# Altium integrated library ON Semi Signal Management Operational Amplifiers.IntLib: 435 symbols (part 5 of 12)
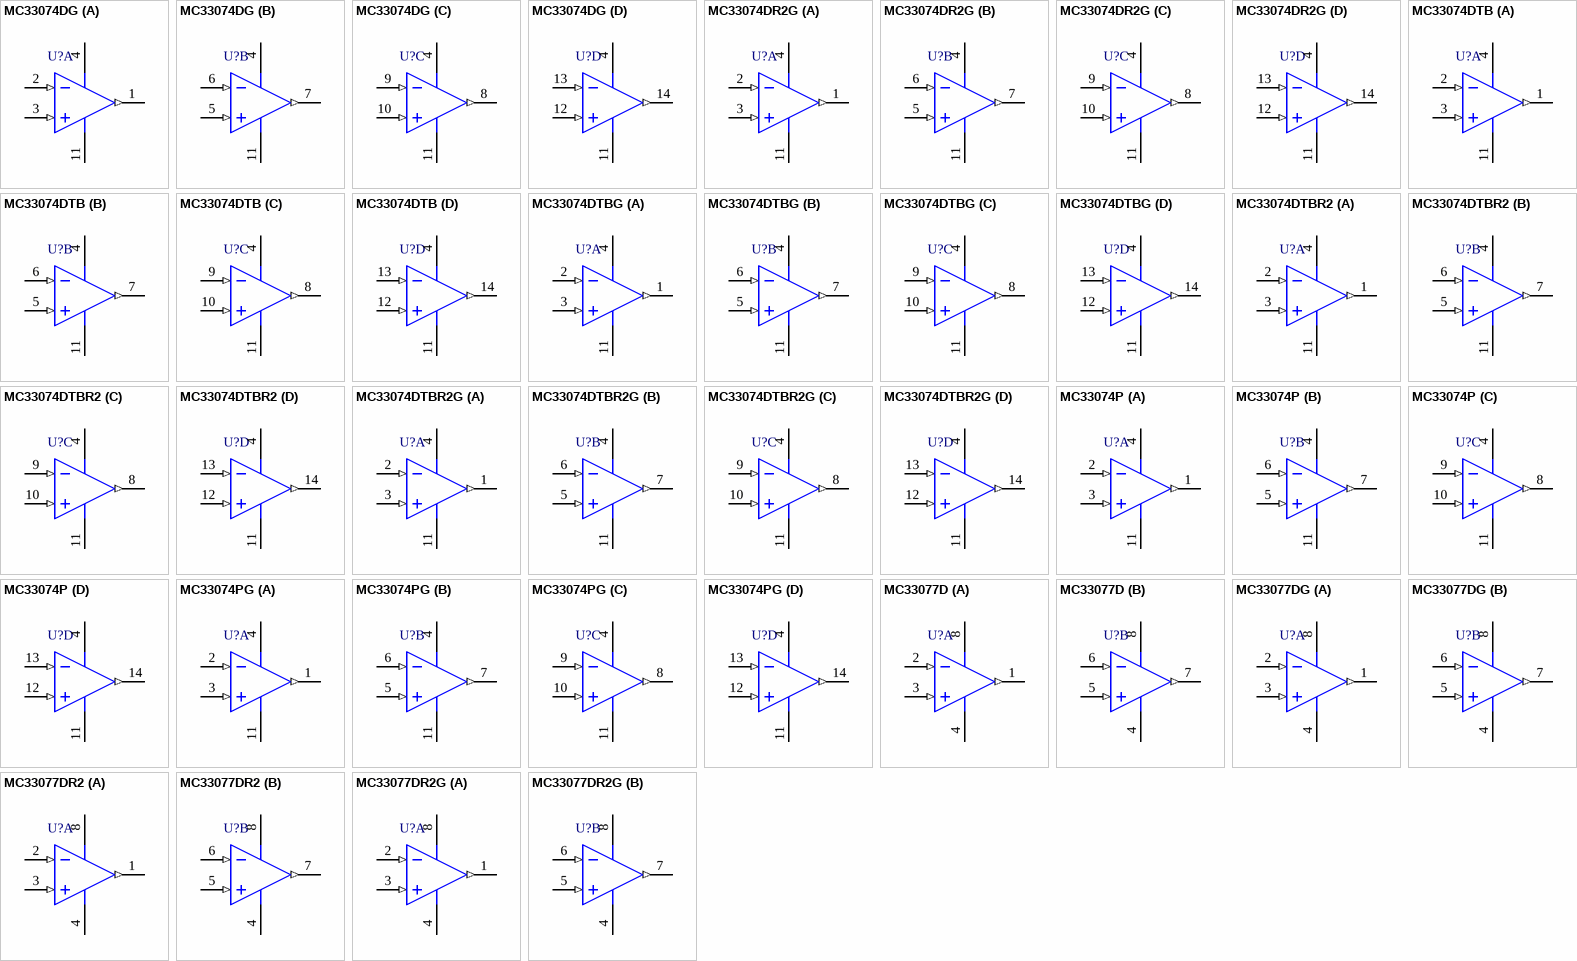
[diagram p29: symbols MC33074DG to MC33077DR2G]

## MC33077DG
designator U?
Low Noise Dual Operational Amplifier, 5 to 36 V, -40 to 85 degC, 8-Pin SOIC, Pb-Free, Tube; Manufacturer: On Semiconductor; PartNumber: MC33077DG; GBW Typ (MHz): 37; SR Typ (V/uS): 11; VCC Max (V): 36; VCC Min (V): 5; DatasheetVersion: Rev. 5; PackageVersion: Rev. AK, 02/2011; PackageReference: SOIC-8-751-07; PackageDescription: 8-Pin Small Outline Integrated Circuit, Body 4.9 x 3.9 mm, Pitch 1.27 mm; Supplier 1: Digi-Key; Supplier Part Number 1: MC33077DGOS-ND; Supplier 2: Farnell; Supplier Part Number 2: 1211116; Supplier 3: Newark; Supplier Part Number 3: 98H0675; Supplier 4: Mouser; Supplier Part Number 4: 863-MC33077DG; Packing: Tube; RoHS: TRUE; Mounting Technology: Surface Mount; ComponentLink1Description: Manufacturer URL; ComponentLink1URL: http://www.onsemi.com/; ComponentLink2Description: Datasheet; ComponentLink2URL: http://www.onsemi.cn/pub_link/Collateral/MC33077-D.PDF; ComponentLink3Description: Package Specification; ComponentLink3URL: http://www.onsemi.com/pub_link/Collateral/751-07.PDF
footprint ONSC-SOIC-8-751-07_V (SOIC, 8-Leads, Body 4.9x3.9mm, Pitch 1.27mm)
pins on every part: 4 VEE (power), 8 VCC (power)
part A pins: 1 OUT1 (out), 2 IN1- (in), 3 IN1+ (in)
part B pins: 5 IN2+ (in), 6 IN2- (in), 7 OUT2 (out)

## MC33077DR2
designator U?
Low Noise Dual Operational Amplifier, 5 to 36 V, -40 to 85 degC, 8-Pin SOIC, Tape and Reel; Manufacturer: On Semiconductor; PartNumber: MC33077DR2; GBW Typ (MHz): 37; SR Typ (V/uS): 11; VCC Max (V): 36; VCC Min (V): 5; DatasheetVersion: Rev. 5; PackageVersion: Rev. AK, 02/2011; PackageReference: SOIC-8-751-07; PackageDescription: 8-Pin Small Outline Integrated Circuit, Body 4.9 x 3.9 mm, Pitch 1.27 mm; Packing: Tape and Reel; RoHS: FALSE; Mounting Technology: Surface Mount; ComponentLink1Description: Manufacturer URL; ComponentLink1URL: http://www.onsemi.com/; ComponentLink2Description: Datasheet; ComponentLink2URL: http://www.onsemi.cn/pub_link/Collateral/MC33077-D.PDF; ComponentLink3Description: Package Specification; ComponentLink3URL: http://www.onsemi.com/pub_link/Collateral/751-07.PDF
footprint ONSC-SOIC-8-751-07_V (SOIC, 8-Leads, Body 4.9x3.9mm, Pitch 1.27mm)
pins on every part: 4 VEE (power), 8 VCC (power)
part A pins: 1 OUT1 (out), 2 IN1- (in), 3 IN1+ (in)
part B pins: 5 IN2+ (in), 6 IN2- (in), 7 OUT2 (out)

## MC33077DR2G
designator U?
Low Noise Dual Operational Amplifier, 5 to 36 V, -40 to 85 degC, 8-Pin SOIC, Pb-Free, Tape and Reel; Manufacturer: On Semiconductor; PartNumber: MC33077DR2G; GBW Typ (MHz): 37; SR Typ (V/uS): 11; VCC Max (V): 36; VCC Min (V): 5; DatasheetVersion: Rev. 5; PackageVersion: Rev. AK, 02/2011; PackageReference: SOIC-8-751-07; PackageDescription: 8-Pin Small Outline Integrated Circuit, Body 4.9 x 3.9 mm, Pitch 1.27 mm; Supplier 1: Digi-Key; Supplier Part Number 1: MC33077DR2GOSTR-ND; Supplier 2: Digi-Key; Supplier Part Number 2: MC33077DR2GOSCT-ND; Supplier 3: Digi-Key; Supplier Part Number 3: MC33077DR2GOSDKR-ND; Supplier 4: Newark; Supplier Part Number 4: 98H0676; Supplier 5: Mouser; Supplier Part Number 5: 863-MC33077DR2G; Packing: Tape and Reel; RoHS: TRUE; Mounting Technology: Surface Mount; ComponentLink1Description: Manufacturer URL; ComponentLink1URL: http://www.onsemi.com/; ComponentLink2Description: Datasheet; ComponentLink2URL: http://www.onsemi.cn/pub_link/Collateral/MC33077-D.PDF; ComponentLink3Description: Package Specification; ComponentLink3URL: http://www.onsemi.com/pub_link/Collateral/751-07.PDF
footprint ONSC-SOIC-8-751-07_V (SOIC, 8-Leads, Body 4.9x3.9mm, Pitch 1.27mm)
pins on every part: 4 VEE (power), 8 VCC (power)
part A pins: 1 OUT1 (out), 2 IN1- (in), 3 IN1+ (in)
part B pins: 5 IN2+ (in), 6 IN2- (in), 7 OUT2 (out)

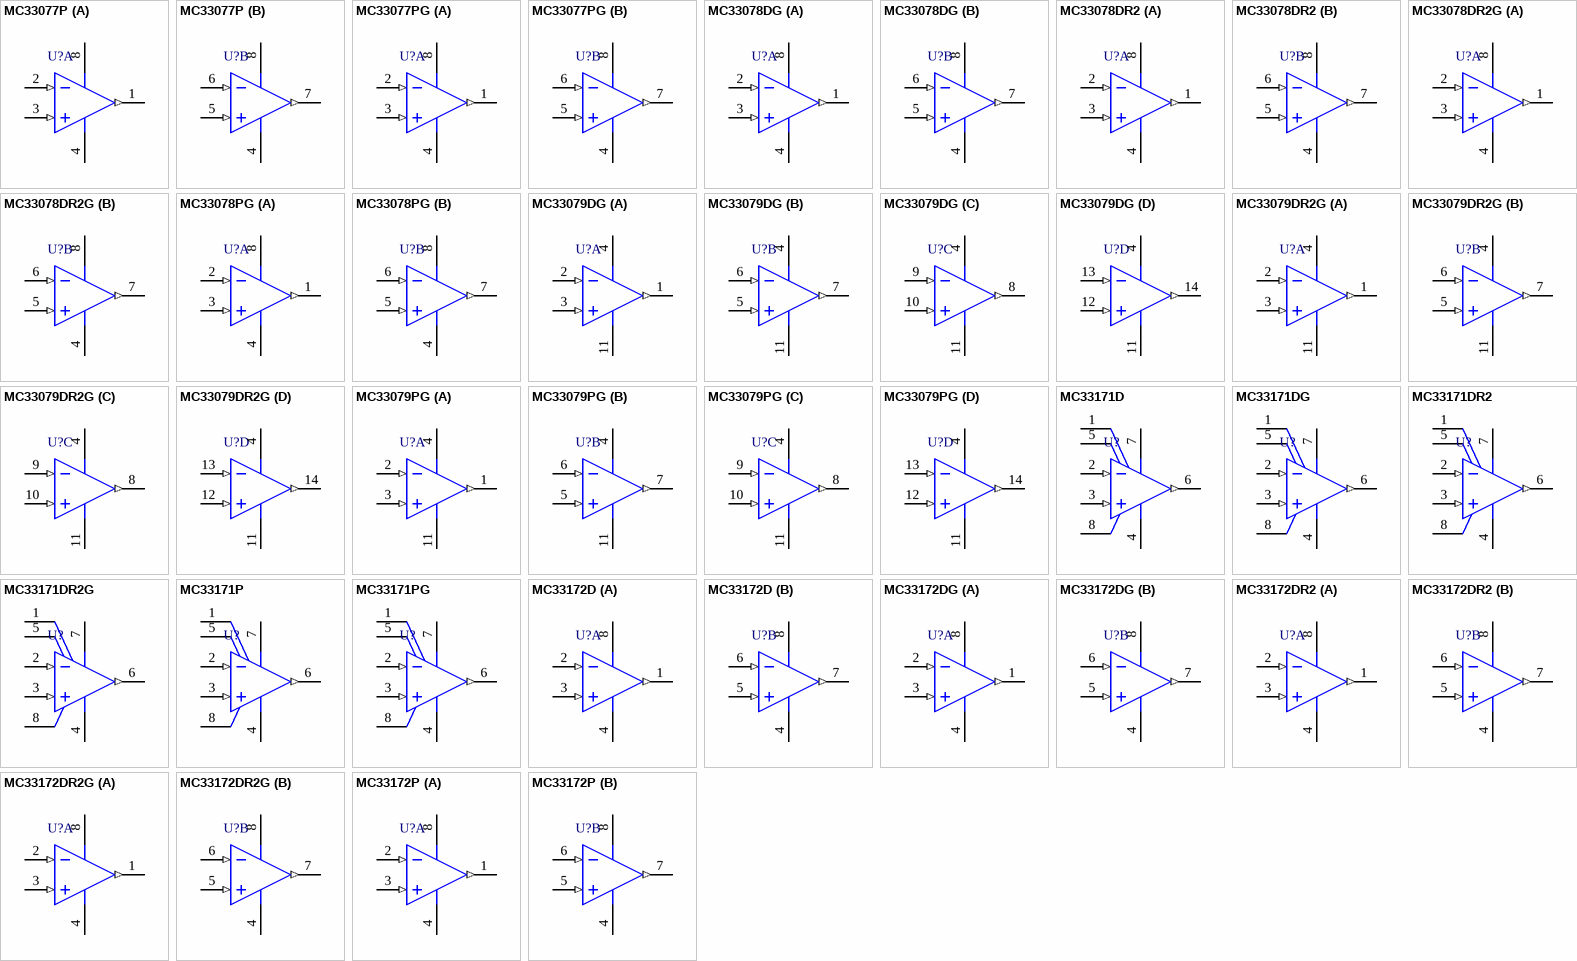
[diagram p10: symbols MC33077P to MC33172P]

## MC33077P
designator U?
Low Noise Dual Operational Amplifier, 5 to 36 V, -40 to 85 degC, 8-Pin PDIP, Tube; Manufacturer: On Semiconductor; PartNumber: MC33077P; GBW Typ (MHz): 37; SR Typ (V/uS): 11; VCC Max (V): 36; VCC Min (V): 5; DatasheetVersion: Rev. 5; PackageVersion: Rev. L, 09/2000; PackageReference: PDIP-8-626-05; PackageDescription: 8-Pin Plastic Dual-In Line Package, Body 9.78 x 6.35 mm, Pitch 2.54 mm; Supplier 1: Digi-Key; Supplier Part Number 1: MC33077POS-ND; Packing: Tube; RoHS: FALSE; Mounting Technology: Through Hole; ComponentLink1Description: Manufacturer URL; ComponentLink1URL: http://www.onsemi.com/; ComponentLink2Description: Datasheet; ComponentLink2URL: http://www.onsemi.cn/pub_link/Collateral/MC33077-D.PDF; ComponentLink3Description: Package Specification; ComponentLink3URL: http://www.onsemi.cn/pub_link/Collateral/MC33178-D.PDF
footprint ONSC-PDIP-8-626-05_L (DIP, 8-Leads, Body 10.15x6.6mm, Pitch 2.54mm)
pins on every part: 4 VEE (power), 8 VCC (power)
part A pins: 1 OUT1 (out), 2 IN1- (in), 3 IN1+ (in)
part B pins: 5 IN2+ (in), 6 IN2- (in), 7 OUT2 (out)

## MC33077PG
designator U?
Low Noise Dual Operational Amplifier, 5 to 36 V, -40 to 85 degC, 8-Pin PDIP, Pb-Free, Tube; Manufacturer: On Semiconductor; PartNumber: MC33077PG; GBW Typ (MHz): 37; SR Typ (V/uS): 11; VCC Max (V): 36; VCC Min (V): 5; DatasheetVersion: Rev. 5; PackageVersion: Rev. L, 09/2000; PackageReference: PDIP-8-626-05; PackageDescription: 8-Pin Plastic Dual-In Line Package, Body 9.78 x 6.35 mm, Pitch 2.54 mm; Supplier 1: Digi-Key; Supplier Part Number 1: MC33077PGOS-ND; Supplier 2: Newark; Supplier Part Number 2: 26K4000; Supplier 3: Mouser; Supplier Part Number 3: 863-MC33077PG; Packing: Tube; RoHS: TRUE; Mounting Technology: Through Hole; ComponentLink1Description: Manufacturer URL; ComponentLink1URL: http://www.onsemi.com/; ComponentLink2Description: Datasheet; ComponentLink2URL: http://www.onsemi.cn/pub_link/Collateral/MC33077-D.PDF; ComponentLink3Description: Package Specification; ComponentLink3URL: http://www.onsemi.cn/pub_link/Collateral/MC33178-D.PDF
footprint ONSC-PDIP-8-626-05_L (DIP, 8-Leads, Body 10.15x6.6mm, Pitch 2.54mm)
pins on every part: 4 VEE (power), 8 VCC (power)
part A pins: 1 OUT1 (out), 2 IN1- (in), 3 IN1+ (in)
part B pins: 5 IN2+ (in), 6 IN2- (in), 7 OUT2 (out)

## MC33078DG
designator U?
Low Noise Dual Operational Amplifier, 10 to 36 V, -40 to 85 degC, 8-Pin SOIC, Pb-Free, Tube; Manufacturer: On Semiconductor; PartNumber: MC33078DG; GBW Typ (MHz): 16; SR Typ (V/uS): 7; VCC Max (V): 36; VCC Min (V): 10; DatasheetVersion: Rev. 9; PackageVersion: Rev. AK, 02/2011; PackageReference: SOIC-8-751-07; PackageDescription: 8-Pin Small Outline Integrated Circuit, Body 4.9 x 3.9 mm, Pitch 1.27 mm; Supplier 1: Digi-Key; Supplier Part Number 1: MC33078DGOS-ND; Supplier 2: Farnell; Supplier Part Number 2: 9665323; Supplier 3: Newark; Supplier Part Number 3: 71J5515; Supplier 4: Mouser; Supplier Part Number 4: 863-MC33078DG; Packing: Tube; RoHS: TRUE; Mounting Technology: Surface Mount; ComponentLink1Description: Manufacturer URL; ComponentLink1URL: http://www.onsemi.com/; ComponentLink2Description: Datasheet; ComponentLink2URL: http://www.onsemi.cn/pub_link/Collateral/MC33078-D.PDF; ComponentLink3Description: Package Specification; ComponentLink3URL: http://www.onsemi.com/pub_link/Collateral/751-07.PDF
footprint ONSC-SOIC-8-751-07_V (SOIC, 8-Leads, Body 4.9x3.9mm, Pitch 1.27mm)
pins on every part: 4 VEE (power), 8 VCC (power)
part A pins: 1 OUT1 (out), 2 IN1- (in), 3 IN1+ (in)
part B pins: 5 IN2+ (in), 6 IN2- (in), 7 OUT2 (out)

## MC33078DR2
designator U?
Low Noise Dual Operational Amplifier, 10 to 36 V, -40 to 85 degC, 8-Pin SOIC, Tape and Reel; Manufacturer: On Semiconductor; PartNumber: MC33078DR2; GBW Typ (MHz): 16; SR Typ (V/uS): 7; VCC Max (V): 36; VCC Min (V): 10; DatasheetVersion: Rev. 9; PackageVersion: Rev. AK, 02/2011; PackageReference: SOIC-8-751-07; PackageDescription: 8-Pin Small Outline Integrated Circuit, Body 4.9 x 3.9 mm, Pitch 1.27 mm; Supplier 1: Digi-Key; Supplier Part Number 1: MC33078DR2OSCT-ND; Packing: Tape and Reel; RoHS: FALSE; Mounting Technology: Surface Mount; ComponentLink1Description: Manufacturer URL; ComponentLink1URL: http://www.onsemi.com/; ComponentLink2Description: Datasheet; ComponentLink2URL: http://www.onsemi.cn/pub_link/Collateral/MC33078-D.PDF; ComponentLink3Description: Package Specification; ComponentLink3URL: http://www.onsemi.com/pub_link/Collateral/751-07.PDF
footprint ONSC-SOIC-8-751-07_V (SOIC, 8-Leads, Body 4.9x3.9mm, Pitch 1.27mm)
pins on every part: 4 VEE (power), 8 VCC (power)
part A pins: 1 OUT1 (out), 2 IN1- (in), 3 IN1+ (in)
part B pins: 5 IN2+ (in), 6 IN2- (in), 7 OUT2 (out)

## MC33078DR2G
designator U?
Low Noise Dual Operational Amplifier, 10 to 36 V, -40 to 85 degC, 8-Pin SOIC, Pb-Free, Tape and Reel; Manufacturer: On Semiconductor; PartNumber: MC33078DR2G; GBW Typ (MHz): 16; SR Typ (V/uS): 7; VCC Max (V): 36; VCC Min (V): 10; DatasheetVersion: Rev. 9; PackageVersion: Rev. AK, 02/2011; PackageReference: SOIC-8-751-07; PackageDescription: 8-Pin Small Outline Integrated Circuit, Body 4.9 x 3.9 mm, Pitch 1.27 mm; Supplier 1: Digi-Key; Supplier Part Number 1: MC33078DR2GOSTR-ND; Supplier 2: Digi-Key; Supplier Part Number 2: MC33078DR2GOSCT-ND; Supplier 3: Digi-Key; Supplier Part Number 3: MC33078DR2GOSDKR-ND; Supplier 4: Newark; Supplier Part Number 4: 45J1161; Supplier 5: Mouser; Supplier Part Number 5: 863-MC33078DR2G; Packing: Tape and Reel; RoHS: TRUE; Mounting Technology: Surface Mount; ComponentLink1Description: Manufacturer URL; ComponentLink1URL: http://www.onsemi.com/; ComponentLink2Description: Datasheet; ComponentLink2URL: http://www.onsemi.cn/pub_link/Collateral/MC33078-D.PDF; ComponentLink3Description: Package Specification; ComponentLink3URL: http://www.onsemi.com/pub_link/Collateral/751-07.PDF
footprint ONSC-SOIC-8-751-07_V (SOIC, 8-Leads, Body 4.9x3.9mm, Pitch 1.27mm)
pins on every part: 4 VEE (power), 8 VCC (power)
part A pins: 1 OUT1 (out), 2 IN1- (in), 3 IN1+ (in)
part B pins: 5 IN2+ (in), 6 IN2- (in), 7 OUT2 (out)

## MC33078PG
designator U?
Low Noise Dual Operational Amplifier, 10 to 36 V, -40 to 85 degC, 8-Pin PDIP, Pb-Free, Tube; Manufacturer: On Semiconductor; PartNumber: MC33078PG; GBW Typ (MHz): 16; SR Typ (V/uS): 7; VCC Max (V): 36; VCC Min (V): 10; DatasheetVersion: Rev. 9; PackageVersion: Rev. M, 04/2010; PackageReference: PDIP-8-626-05; PackageDescription: 8-Pin Plastic Dual-In Line Package, Body 9.52 x 6.605 mm, Pitch 2.54 mm; Supplier 1: Digi-Key; Supplier Part Number 1: MC33078PGOS-ND; Supplier 2: Farnell; Supplier Part Number 2: 9664980; Supplier 3: Newark; Supplier Part Number 3: 45J1162; Supplier 4: Mouser; Supplier Part Number 4: 863-MC33078PG; Packing: Tube; RoHS: TRUE; Mounting Technology: Through Hole; ComponentLink1Description: Manufacturer URL; ComponentLink1URL: http://www.onsemi.com/; ComponentLink2Description: Datasheet; ComponentLink2URL: http://www.onsemi.cn/pub_link/Collateral/MC33078-D.PDF; ComponentLink3Description: Package Specification; ComponentLink3URL: http://www.onsemi.com/pub_link/Collateral/LM211-D.PDF
footprint ONSC-PDIP-8-626-05_M (DIP, 8-Leads, Body 10x7.1mm, Pitch 2.54mm)
pins on every part: 4 VEE (power), 8 VCC (power)
part A pins: 1 OUT1 (out), 2 IN1- (in), 3 IN1+ (in)
part B pins: 5 IN2+ (in), 6 IN2- (in), 7 OUT2 (out)

## MC33079DG
designator U?
Low Noise Quad Operational Amplifier, 10 to 36 V, -40 to 85 degC, 14-Pin SOIC, Pb-Free, Tube; Manufacturer: On Semiconductor; PartNumber: MC33079DG; GBW Typ (MHz): 16; SR Typ (V/uS): 7; VCC Max (V): 36; VCC Min (V): 10; DatasheetVersion: Rev. 9; PackageVersion: Rev. K, 05/2011; PackageReference: SOIC-14-751A-03; PackageDescription: 14-Pin Small Outline Integrated Circuit, Body 8.65 x 3.9 mm, Pitch 1.27 mm; Supplier 1: Digi-Key; Supplier Part Number 1: MC33079DGOS-ND; Supplier 2: Farnell; Supplier Part Number 2: 9665331; Supplier 3: Mouser; Supplier Part Number 3: 863-MC33079DG; Packing: Tube; RoHS: TRUE; Mounting Technology: Surface Mount; ComponentLink1Description: Manufacturer URL; ComponentLink1URL: http://www.onsemi.com/; ComponentLink2Description: Datasheet; ComponentLink2URL: http://www.onsemi.cn/pub_link/Collateral/MC33078-D.PDF; ComponentLink3Description: Package Specification; ComponentLink3URL: http://www.onsemi.com/pub_link/Collateral/751A-03.PDF
footprint ONSC-SOIC-14-751A-03_V (SOIC, 14-Leads, Body 8.75x4mm, Pitch 1.27mm)
pins on every part: 4 VCC (power), 11 VEE (power)
part A pins: 1 OUT1 (out), 2 IN1- (in), 3 IN1+ (in)
part B pins: 5 IN2+ (in), 6 IN2- (in), 7 OUT2 (out)
part C pins: 8 OUT3 (out), 9 IN3- (in), 10 IN3+ (in)
part D pins: 12 IN4+ (in), 13 IN4- (in), 14 OUT4 (out)

## MC33079DR2G
designator U?
Low Noise Quad Operational Amplifier, 10 to 36 V, -40 to 85 degC, 14-Pin SOIC, Pb-Free, Tape and Reel; Manufacturer: On Semiconductor; PartNumber: MC33079DR2G; GBW Typ (MHz): 16; SR Typ (V/uS): 7; VCC Max (V): 36; VCC Min (V): 10; DatasheetVersion: Rev. 9; PackageVersion: Rev. K, 05/2011; PackageReference: SOIC-14-751A-03; PackageDescription: 14-Pin Small Outline Integrated Circuit, Body 8.65 x 3.9 mm, Pitch 1.27 mm; Supplier 1: Digi-Key; Supplier Part Number 1: MC33079DR2GOSTR-ND; Supplier 2: Digi-Key; Supplier Part Number 2: MC33079DR2GOSCT-ND; Supplier 3: Digi-Key; Supplier Part Number 3: MC33079DR2GOSDKR-ND; Supplier 4: Farnell; Supplier Part Number 4: 1886880; Supplier 5: Mouser; Supplier Part Number 5: 863-MC33079DR2G; Packing: Tape and Reel; RoHS: TRUE; Mounting Technology: Surface Mount; ComponentLink1Description: Manufacturer URL; ComponentLink1URL: http://www.onsemi.com/; ComponentLink2Description: Datasheet; ComponentLink2URL: http://www.onsemi.cn/pub_link/Collateral/MC33078-D.PDF; ComponentLink3Description: Package Specification; ComponentLink3URL: http://www.onsemi.com/pub_link/Collateral/751A-03.PDF
footprint ONSC-SOIC-14-751A-03_V (SOIC, 14-Leads, Body 8.75x4mm, Pitch 1.27mm)
pins on every part: 4 VCC (power), 11 VEE (power)
part A pins: 1 OUT1 (out), 2 IN1- (in), 3 IN1+ (in)
part B pins: 5 IN2+ (in), 6 IN2- (in), 7 OUT2 (out)
part C pins: 8 OUT3 (out), 9 IN3- (in), 10 IN3+ (in)
part D pins: 12 IN4+ (in), 13 IN4- (in), 14 OUT4 (out)

## MC33079PG
designator U?
Low Noise Quad Operational Amplifier, 10 to 36 V, -40 to 85 degC, 14-Pin PDIP, Pb-Free, Tube; Manufacturer: On Semiconductor; PartNumber: MC33079PG; GBW Typ (MHz): 16; SR Typ (V/uS): 7; VCC Max (V): 36; VCC Min (V): 10; DatasheetVersion: Rev. 9; PackageVersion: Rev. P, 10/2006; PackageReference: PDIP-14-646-06_P; PackageDescription: 14-Pin Plastic Dual-In Line Package, Body 18.86 x 6.35 mm, Pitch 2.54 mm; Supplier 1: Digi-Key; Supplier Part Number 1: MC33079PGOS-ND; Supplier 2: Farnell; Supplier Part Number 2: 9665030; Supplier 3: Newark; Supplier Part Number 3: 98H0678; Supplier 4: Mouser; Supplier Part Number 4: 863-MC33079PG; Packing: Tube; RoHS: TRUE; Mounting Technology: Through Hole; ComponentLink1Description: Manufacturer URL; ComponentLink1URL: http://www.onsemi.com/; ComponentLink2Description: Datasheet; ComponentLink2URL: http://www.onsemi.cn/pub_link/Collateral/MC33078-D.PDF; ComponentLink3Description: Package Specification; ComponentLink3URL: http://www.onsemi.com/pub_link/Collateral/MC14066B-D.PDF
footprint ONSC-PDIP-14-646-06_P (DIP, 14-Leads, Body 19.55x6.6mm, Pitch 2.54mm)
pins on every part: 4 VCC (power), 11 VEE (power)
part A pins: 1 OUT1 (out), 2 IN1- (in), 3 IN1+ (in)
part B pins: 5 IN2+ (in), 6 IN2- (in), 7 OUT2 (out)
part C pins: 8 OUT3 (out), 9 IN3- (in), 10 IN3+ (in)
part D pins: 12 IN4+ (in), 13 IN4- (in), 14 OUT4 (out)

## MC33171D
designator U?
Single Supply, Low Power Operational Amplifier, 3 to 44 V, -40 to 85 degC, 8-Pin SOIC, Tube; Manufacturer: On Semiconductor; PartNumber: MC33171D; GBW Typ (MHz): 1.8; SR Typ (V/uS): 2.1; VCC Max (V): 44; VCC Min (V): 3; DatasheetVersion: Rev. 12; PackageVersion: Rev. AK, 02/2011; PackageReference: SOIC-8-751-07; PackageDescription: 8-Pin Small Outline Integrated Circuit, Body 4.9 x 3.9 mm, Pitch 1.27 mm; Packing: Tube; RoHS: FALSE; Mounting Technology: Surface Mount; ComponentLink1Description: Manufacturer URL; ComponentLink1URL: http://www.onsemi.com/; ComponentLink2Description: Datasheet; ComponentLink2URL: http://www.onsemi.cn/pub_link/Collateral/MC33171-D.PDF; ComponentLink3Description: Package Specification; ComponentLink3URL: http://www.onsemi.com/pub_link/Collateral/751-07.PDF
footprint ONSC-SOIC-8-751-07_V (SOIC, 8-Leads, Body 4.9x3.9mm, Pitch 1.27mm)
pins: 1 OFFSET NULL, 2 IN- (in), 3 IN+ (in), 4 VEE (power), 5 OFFSET NULL, 6 OUT (out), 7 VCC (power), 8 NC

## MC33171DG
designator U?
Single Supply, Low Power Operational Amplifier, 3 to 44 V, -40 to 85 degC, 8-Pin SOIC, Pb-Free, Tube; Manufacturer: On Semiconductor; PartNumber: MC33171DG; GBW Typ (MHz): 1.8; SR Typ (V/uS): 2.1; VCC Max (V): 44; VCC Min (V): 3; DatasheetVersion: Rev. 12; PackageVersion: Rev. AK, 02/2011; PackageReference: SOIC-8-751-07; PackageDescription: 8-Pin Small Outline Integrated Circuit, Body 4.9 x 3.9 mm, Pitch 1.27 mm; Supplier 1: Digi-Key; Supplier Part Number 1: MC33171DGOS-ND; Supplier 2: Farnell; Supplier Part Number 2: 1104707; Supplier 3: Newark; Supplier Part Number 3: 42K0590; Supplier 4: Mouser; Supplier Part Number 4: 863-MC33171DG; Packing: Tube; RoHS: TRUE; Mounting Technology: Surface Mount; ComponentLink1Description: Manufacturer URL; ComponentLink1URL: http://www.onsemi.com/; ComponentLink2Description: Datasheet; ComponentLink2URL: http://www.onsemi.cn/pub_link/Collateral/MC33171-D.PDF; ComponentLink3Description: Package Specification; ComponentLink3URL: http://www.onsemi.com/pub_link/Collateral/751-07.PDF
footprint ONSC-SOIC-8-751-07_V (SOIC, 8-Leads, Body 4.9x3.9mm, Pitch 1.27mm)
pins: 1 OFFSET NULL, 2 IN- (in), 3 IN+ (in), 4 VEE (power), 5 OFFSET NULL, 6 OUT (out), 7 VCC (power), 8 NC

## MC33171DR2
designator U?
Single Supply, Low Power Operational Amplifier, 3 to 44 V, -40 to 85 degC, 8-Pin SOIC, Tape and Reel; Manufacturer: On Semiconductor; PartNumber: MC33171DR2; GBW Typ (MHz): 1.8; SR Typ (V/uS): 2.1; VCC Max (V): 44; VCC Min (V): 3; DatasheetVersion: Rev. 12; PackageVersion: Rev. AK, 02/2011; PackageReference: SOIC-8-751-07; PackageDescription: 8-Pin Small Outline Integrated Circuit, Body 4.9 x 3.9 mm, Pitch 1.27 mm; Packing: Tape and Reel; RoHS: FALSE; Mounting Technology: Surface Mount; ComponentLink1Description: Manufacturer URL; ComponentLink1URL: http://www.onsemi.com/; ComponentLink2Description: Datasheet; ComponentLink2URL: http://www.onsemi.cn/pub_link/Collateral/MC33171-D.PDF; ComponentLink3Description: Package Specification; ComponentLink3URL: http://www.onsemi.com/pub_link/Collateral/751-07.PDF
footprint ONSC-SOIC-8-751-07_V (SOIC, 8-Leads, Body 4.9x3.9mm, Pitch 1.27mm)
pins: 1 OFFSET NULL, 2 IN- (in), 3 IN+ (in), 4 VEE (power), 5 OFFSET NULL, 6 OUT (out), 7 VCC (power), 8 NC

## MC33171DR2G
designator U?
Single Supply, Low Power Operational Amplifier, 3 to 44 V, -40 to 85 degC, 8-Pin SOIC, Pb-Free, Tape and Reel; Manufacturer: On Semiconductor; PartNumber: MC33171DR2G; GBW Typ (MHz): 1.8; SR Typ (V/uS): 2.1; VCC Max (V): 44; VCC Min (V): 3; DatasheetVersion: Rev. 12; PackageVersion: Rev. AK, 02/2011; PackageReference: SOIC-8-751-07; PackageDescription: 8-Pin Small Outline Integrated Circuit, Body 4.9 x 3.9 mm, Pitch 1.27 mm; Supplier 1: Digi-Key; Supplier Part Number 1: MC33171DR2GOSTR-ND; Supplier 2: Digi-Key; Supplier Part Number 2: MC33171DR2GOSCT-ND; Supplier 3: Digi-Key; Supplier Part Number 3: MC33171DR2GOSDKR-ND; Supplier 4: Newark; Supplier Part Number 4: 45J1172; Supplier 5: Mouser; Supplier Part Number 5: 863-MC33171DR2G; Packing: Tape and Reel; RoHS: TRUE; Mounting Technology: Surface Mount; ComponentLink1Description: Manufacturer URL; ComponentLink1URL: http://www.onsemi.com/; ComponentLink2Description: Datasheet; ComponentLink2URL: http://www.onsemi.cn/pub_link/Collateral/MC33171-D.PDF; ComponentLink3Description: Package Specification; ComponentLink3URL: http://www.onsemi.com/pub_link/Collateral/751-07.PDF
footprint ONSC-SOIC-8-751-07_V (SOIC, 8-Leads, Body 4.9x3.9mm, Pitch 1.27mm)
pins: 1 OFFSET NULL, 2 IN- (in), 3 IN+ (in), 4 VEE (power), 5 OFFSET NULL, 6 OUT (out), 7 VCC (power), 8 NC

## MC33171P
designator U?
Single Supply, Low Power Operational Amplifier, 3 to 44 V, -40 to 85 degC, 8-Pin PDIP, Tube; Manufacturer: On Semiconductor; PartNumber: MC33171P; GBW Typ (MHz): 1.8; SR Typ (V/uS): 2.1; VCC Max (V): 44; VCC Min (V): 3; DatasheetVersion: Rev. 12; PackageVersion: Rev. M, 04/2010; PackageReference: PDIP-8-626-05; PackageDescription: 8-Pin Plastic Dual-In Line Package, Body 9.52 x 6.605 mm, Pitch 2.54 mm; Supplier 1: Mouser; Supplier Part Number 1: 863-MC33171P; Packing: Tube; RoHS: FALSE; Mounting Technology: Through Hole; ComponentLink1Description: Manufacturer URL; ComponentLink1URL: http://www.onsemi.com/; ComponentLink2Description: Datasheet; ComponentLink2URL: http://www.onsemi.cn/pub_link/Collateral/MC33171-D.PDF; ComponentLink3Description: Package Specification; ComponentLink3URL: http://www.onsemi.com/pub_link/Collateral/LM211-D.PDF
footprint ONSC-PDIP-8-626-05_M (DIP, 8-Leads, Body 10x7.1mm, Pitch 2.54mm)
pins: 1 OFFSET NULL, 2 IN- (in), 3 IN+ (in), 4 VEE (power), 5 OFFSET NULL, 6 OUT (out), 7 VCC (power), 8 NC

## MC33171PG
designator U?
Single Supply, Low Power Operational Amplifier, 3 to 44 V, -40 to 85 degC, 8-Pin PDIP, Pb-Free, Tube; Manufacturer: On Semiconductor; PartNumber: MC33171PG; GBW Typ (MHz): 1.8; SR Typ (V/uS): 2.1; VCC Max (V): 44; VCC Min (V): 3; DatasheetVersion: Rev. 12; PackageVersion: Rev. M, 04/2010; PackageReference: PDIP-8-626-05; PackageDescription: 8-Pin Plastic Dual-In Line Package, Body 9.52 x 6.605 mm, Pitch 2.54 mm; Supplier 1: Digi-Key; Supplier Part Number 1: MC33171PGOS-ND; Supplier 2: Farnell; Supplier Part Number 2: 9664955; Supplier 3: Newark; Supplier Part Number 3: 26K4011; Supplier 4: Mouser; Supplier Part Number 4: 863-MC33171PG; Packing: Tube; RoHS: TRUE; Mounting Technology: Through Hole; ComponentLink1Description: Manufacturer URL; ComponentLink1URL: http://www.onsemi.com/; ComponentLink2Description: Datasheet; ComponentLink2URL: http://www.onsemi.cn/pub_link/Collateral/MC33171-D.PDF; ComponentLink3Description: Package Specification; ComponentLink3URL: http://www.onsemi.com/pub_link/Collateral/LM211-D.PDF
footprint ONSC-PDIP-8-626-05_M (DIP, 8-Leads, Body 10x7.1mm, Pitch 2.54mm)
pins: 1 OFFSET NULL, 2 IN- (in), 3 IN+ (in), 4 VEE (power), 5 OFFSET NULL, 6 OUT (out), 7 VCC (power), 8 NC

## MC33172D
designator U?
Single Supply, Low Power Operational Amplifier, 3 to 44 V, -40 to 85 degC, 8-Pin SOIC, Tube; Manufacturer: On Semiconductor; PartNumber: MC33172D; GBW Typ (MHz): 1.8; SR Typ (V/uS): 2.1; VCC Max (V): 44; VCC Min (V): 3; DatasheetVersion: Rev. 12; PackageVersion: Rev. AK, 02/2011; PackageReference: SOIC-8-751-07; PackageDescription: 8-Pin Small Outline Integrated Circuit, Body 4.9 x 3.9 mm, Pitch 1.27 mm; Packing: Tube; RoHS: FALSE; Mounting Technology: Surface Mount; ComponentLink1Description: Manufacturer URL; ComponentLink1URL: http://www.onsemi.com/; ComponentLink2Description: Datasheet; ComponentLink2URL: http://www.onsemi.cn/pub_link/Collateral/MC33171-D.PDF; ComponentLink3Description: Package Specification; ComponentLink3URL: http://www.onsemi.com/pub_link/Collateral/751-07.PDF
footprint ONSC-SOIC-8-751-07_V (SOIC, 8-Leads, Body 4.9x3.9mm, Pitch 1.27mm)
pins on every part: 4 VEE (power), 8 VCC (power)
part A pins: 1 OUT1 (out), 2 IN1- (in), 3 IN1+ (in)
part B pins: 5 IN2+ (in), 6 IN2- (in), 7 OUT2 (out)

## MC33172DG
designator U?
Single Supply, Low Power Operational Amplifier, 3 to 44 V, -40 to 85 degC, 8-Pin SOIC, Pb-Free, Tube; Manufacturer: On Semiconductor; PartNumber: MC33172DG; GBW Typ (MHz): 1.8; SR Typ (V/uS): 2.1; VCC Max (V): 44; VCC Min (V): 3; DatasheetVersion: Rev. 12; PackageVersion: Rev. AK, 02/2011; PackageReference: SOIC-8-751-07; PackageDescription: 8-Pin Small Outline Integrated Circuit, Body 4.9 x 3.9 mm, Pitch 1.27 mm; Supplier 1: Digi-Key; Supplier Part Number 1: MC33172DGOS-ND; Supplier 2: Farnell; Supplier Part Number 2: 9665307; Supplier 3: Newark; Supplier Part Number 3: 17H1572; Supplier 4: Mouser; Supplier Part Number 4: 863-MC33172DG; Packing: Tube; RoHS: TRUE; Mounting Technology: Surface Mount; ComponentLink1Description: Manufacturer URL; ComponentLink1URL: http://www.onsemi.com/; ComponentLink2Description: Datasheet; ComponentLink2URL: http://www.onsemi.cn/pub_link/Collateral/MC33171-D.PDF; ComponentLink3Description: Package Specification; ComponentLink3URL: http://www.onsemi.com/pub_link/Collateral/751-07.PDF
footprint ONSC-SOIC-8-751-07_V (SOIC, 8-Leads, Body 4.9x3.9mm, Pitch 1.27mm)
pins on every part: 4 VEE (power), 8 VCC (power)
part A pins: 1 OUT1 (out), 2 IN1- (in), 3 IN1+ (in)
part B pins: 5 IN2+ (in), 6 IN2- (in), 7 OUT2 (out)

## MC33172DR2
designator U?
Single Supply, Low Power Operational Amplifier, 3 to 44 V, -40 to 85 degC, 8-Pin SOIC, Tape and Reel; Manufacturer: On Semiconductor; PartNumber: MC33172DR2; GBW Typ (MHz): 1.8; SR Typ (V/uS): 2.1; VCC Max (V): 44; VCC Min (V): 3; DatasheetVersion: Rev. 12; PackageVersion: Rev. AK, 02/2011; PackageReference: SOIC-8-751-07; PackageDescription: 8-Pin Small Outline Integrated Circuit, Body 4.9 x 3.9 mm, Pitch 1.27 mm; Supplier 1: Digi-Key; Supplier Part Number 1: MC33172DR2OSCT-ND; Packing: Tape and Reel; RoHS: FALSE; Mounting Technology: Surface Mount; ComponentLink1Description: Manufacturer URL; ComponentLink1URL: http://www.onsemi.com/; ComponentLink2Description: Datasheet; ComponentLink2URL: http://www.onsemi.cn/pub_link/Collateral/MC33171-D.PDF; ComponentLink3Description: Package Specification; ComponentLink3URL: http://www.onsemi.com/pub_link/Collateral/751-07.PDF
footprint ONSC-SOIC-8-751-07_V (SOIC, 8-Leads, Body 4.9x3.9mm, Pitch 1.27mm)
pins on every part: 4 VEE (power), 8 VCC (power)
part A pins: 1 OUT1 (out), 2 IN1- (in), 3 IN1+ (in)
part B pins: 5 IN2+ (in), 6 IN2- (in), 7 OUT2 (out)

## MC33172DR2G
designator U?
Single Supply, Low Power Operational Amplifier, 3 to 44 V, -40 to 85 degC, 8-Pin SOIC, Pb-Free, Tape and Reel; Manufacturer: On Semiconductor; PartNumber: MC33172DR2G; GBW Typ (MHz): 1.8; SR Typ (V/uS): 2.1; VCC Max (V): 44; VCC Min (V): 3; DatasheetVersion: Rev. 12; PackageVersion: Rev. AK, 02/2011; PackageReference: SOIC-8-751-07; PackageDescription: 8-Pin Small Outline Integrated Circuit, Body 4.9 x 3.9 mm, Pitch 1.27 mm; Supplier 1: Digi-Key; Supplier Part Number 1: MC33172DR2GOSTR-ND; Supplier 2: Digi-Key; Supplier Part Number 2: MC33172DR2GOSCT-ND; Supplier 3: Digi-Key; Supplier Part Number 3: MC33172DR2GOSDKR-ND; Supplier 4: Farnell; Supplier Part Number 4: 1651873; Supplier 5: Farnell; Supplier Part Number 5: 1651873RL; Supplier 6: Newark; Supplier Part Number 6: 84K8759; Supplier 7: Mouser; Supplier Part Number 7: 863-MC33172DR2G; Packing: Tape and Reel; RoHS: TRUE; Mounting Technology: Surface Mount; ComponentLink1Description: Manufacturer URL; ComponentLink1URL: http://www.onsemi.com/; ComponentLink2Description: Datasheet; ComponentLink2URL: http://www.onsemi.cn/pub_link/Collateral/MC33171-D.PDF; ComponentLink3Description: Package Specification; ComponentLink3URL: http://www.onsemi.com/pub_link/Collateral/751-07.PDF
footprint ONSC-SOIC-8-751-07_V (SOIC, 8-Leads, Body 4.9x3.9mm, Pitch 1.27mm)
pins on every part: 4 VEE (power), 8 VCC (power)
part A pins: 1 OUT1 (out), 2 IN1- (in), 3 IN1+ (in)
part B pins: 5 IN2+ (in), 6 IN2- (in), 7 OUT2 (out)

## MC33172P
designator U?
Single Supply, Low Power Operational Amplifier, 3 to 44 V, -40 to 85 degC, 8-Pin PDIP, Tube; Manufacturer: On Semiconductor; PartNumber: MC33172P; GBW Typ (MHz): 1.8; SR Typ (V/uS): 2.1; VCC Max (V): 44; VCC Min (V): 3; DatasheetVersion: Rev. 12; PackageVersion: Rev. M, 04/2010; PackageReference: PDIP-8-626-05; PackageDescription: 8-Pin Plastic Dual-In Line Package, Body 9.52 x 6.605 mm, Pitch 2.54 mm; Supplier 1: Mouser; Supplier Part Number 1: 863-MC33172P; Packing: Tube; RoHS: FALSE; Mounting Technology: Through Hole; ComponentLink1Description: Manufacturer URL; ComponentLink1URL: http://www.onsemi.com/; ComponentLink2Description: Datasheet; ComponentLink2URL: http://www.onsemi.cn/pub_link/Collateral/MC33171-D.PDF; ComponentLink3Description: Package Specification; ComponentLink3URL: http://www.onsemi.com/pub_link/Collateral/LM211-D.PDF
footprint ONSC-PDIP-8-626-05_M (DIP, 8-Leads, Body 10x7.1mm, Pitch 2.54mm)
pins on every part: 4 VEE (power), 8 VCC (power)
part A pins: 1 OUT1 (out), 2 IN1- (in), 3 IN1+ (in)
part B pins: 5 IN2+ (in), 6 IN2- (in), 7 OUT2 (out)

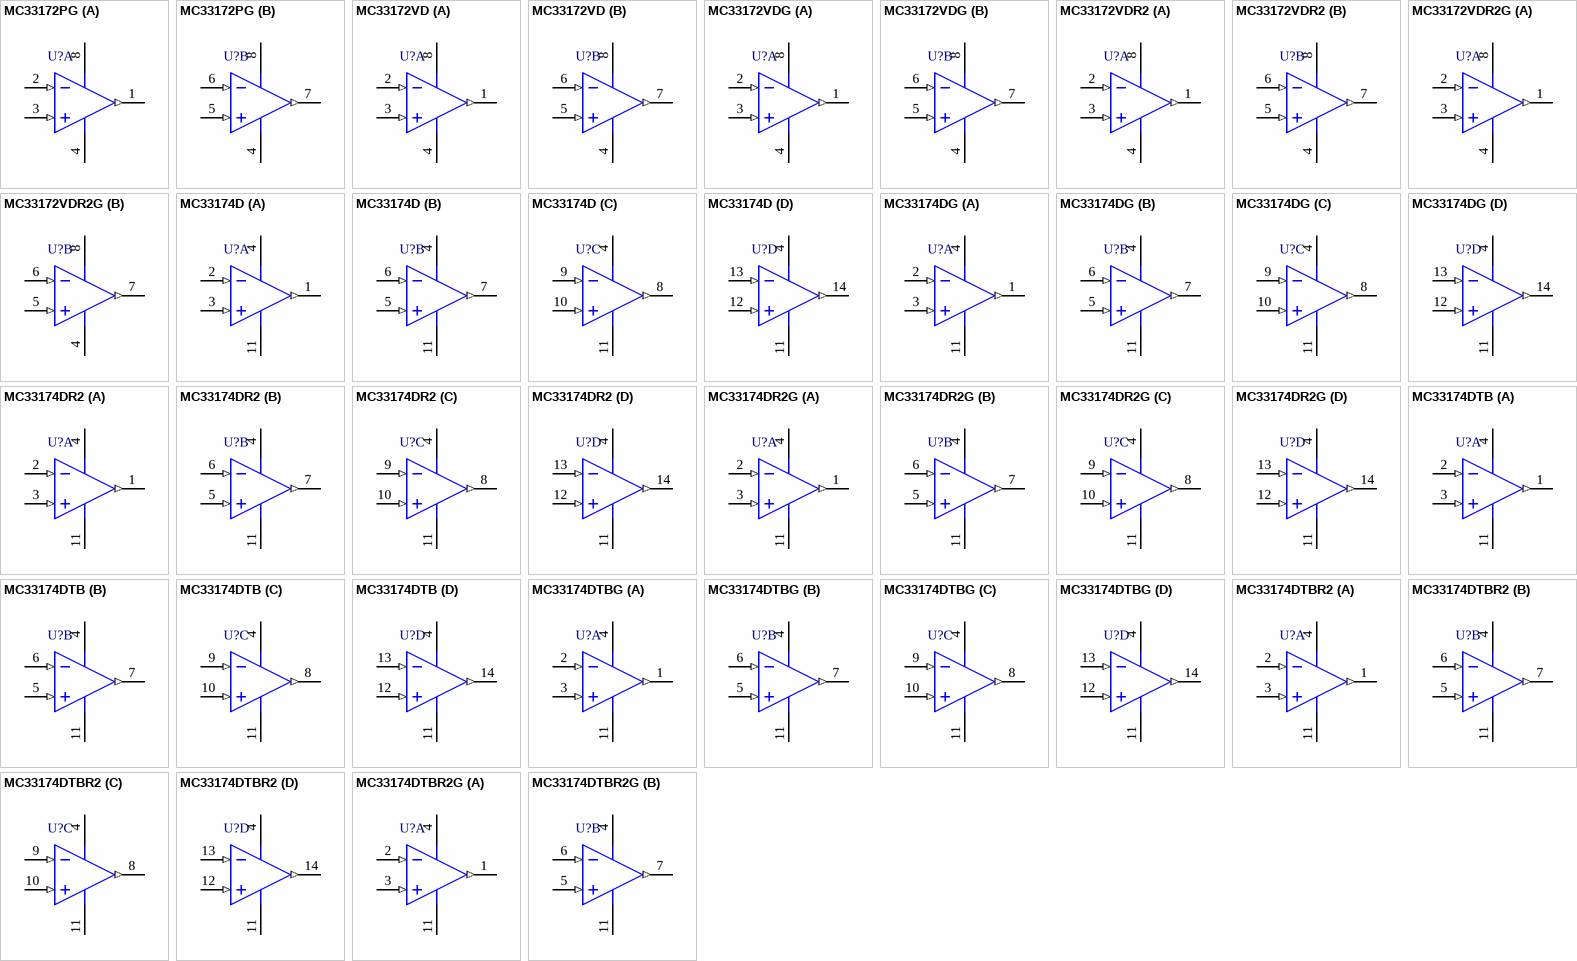
[diagram p11: symbols MC33172PG to MC33174DTBR2G]

## MC33172PG
designator U?
Single Supply, Low Power Operational Amplifier, 3 to 44 V, -40 to 85 degC, 8-Pin PDIP, Pb-Free, Tube; Manufacturer: On Semiconductor; PartNumber: MC33172PG; GBW Typ (MHz): 1.8; SR Typ (V/uS): 2.1; VCC Max (V): 44; VCC Min (V): 3; DatasheetVersion: Rev. 12; PackageVersion: Rev. M, 04/2010; PackageReference: PDIP-8-626-05; PackageDescription: 8-Pin Plastic Dual-In Line Package, Body 9.52 x 6.605 mm, Pitch 2.54 mm; Supplier 1: Digi-Key; Supplier Part Number 1: MC33172PGOS-ND; Supplier 2: Farnell; Supplier Part Number 2: 9664963; Supplier 3: Newark; Supplier Part Number 3: 45J1173; Supplier 4: Mouser; Supplier Part Number 4: 863-MC33172PG; Packing: Tube; RoHS: TRUE; Mounting Technology: Through Hole; ComponentLink1Description: Manufacturer URL; ComponentLink1URL: http://www.onsemi.com/; ComponentLink2Description: Datasheet; ComponentLink2URL: http://www.onsemi.cn/pub_link/Collateral/MC33171-D.PDF; ComponentLink3Description: Package Specification; ComponentLink3URL: http://www.onsemi.com/pub_link/Collateral/LM211-D.PDF
footprint ONSC-PDIP-8-626-05_M (DIP, 8-Leads, Body 10x7.1mm, Pitch 2.54mm)
pins on every part: 4 VEE (power), 8 VCC (power)
part A pins: 1 OUT1 (out), 2 IN1- (in), 3 IN1+ (in)
part B pins: 5 IN2+ (in), 6 IN2- (in), 7 OUT2 (out)

## MC33172VD
designator U?
Single Supply, Low Power Operational Amplifier, 3 to 44 V, -40 to 125 degC, 8-Pin SOIC, Tube; Manufacturer: On Semiconductor; PartNumber: MC33172VD; GBW Typ (MHz): 1.8; SR Typ (V/uS): 2.1; VCC Max (V): 44; VCC Min (V): 3; DatasheetVersion: Rev. 12; PackageVersion: Rev. AK, 02/2011; PackageReference: SOIC-8-751-07; PackageDescription: 8-Pin Small Outline Integrated Circuit, Body 4.9 x 3.9 mm, Pitch 1.27 mm; Packing: Tube; RoHS: FALSE; Mounting Technology: Surface Mount; ComponentLink1Description: Manufacturer URL; ComponentLink1URL: http://www.onsemi.com/; ComponentLink2Description: Datasheet; ComponentLink2URL: http://www.onsemi.cn/pub_link/Collateral/MC33171-D.PDF; ComponentLink3Description: Package Specification; ComponentLink3URL: http://www.onsemi.com/pub_link/Collateral/751-07.PDF
footprint ONSC-SOIC-8-751-07_V (SOIC, 8-Leads, Body 4.9x3.9mm, Pitch 1.27mm)
pins on every part: 4 VEE (power), 8 VCC (power)
part A pins: 1 OUT1 (out), 2 IN1- (in), 3 IN1+ (in)
part B pins: 5 IN2+ (in), 6 IN2- (in), 7 OUT2 (out)

## MC33172VDG
designator U?
Single Supply, Low Power Operational Amplifier, 3 to 44 V, -40 to 125 degC, 8-Pin SOIC, Pb-Free, Tube; Manufacturer: On Semiconductor; PartNumber: MC33172VDG; GBW Typ (MHz): 1.8; SR Typ (V/uS): 2.1; VCC Max (V): 44; VCC Min (V): 3; DatasheetVersion: Rev. 12; PackageVersion: Rev. AK, 02/2011; PackageReference: SOIC-8-751-07; PackageDescription: 8-Pin Small Outline Integrated Circuit, Body 4.9 x 3.9 mm, Pitch 1.27 mm; Supplier 1: Digi-Key; Supplier Part Number 1: MC33172VDGOS-ND; Supplier 2: Mouser; Supplier Part Number 2: 863-MC33172VDG; Packing: Tube; RoHS: TRUE; Mounting Technology: Surface Mount; ComponentLink1Description: Manufacturer URL; ComponentLink1URL: http://www.onsemi.com/; ComponentLink2Description: Datasheet; ComponentLink2URL: http://www.onsemi.cn/pub_link/Collateral/MC33171-D.PDF; ComponentLink3Description: Package Specification; ComponentLink3URL: http://www.onsemi.com/pub_link/Collateral/751-07.PDF
footprint ONSC-SOIC-8-751-07_V (SOIC, 8-Leads, Body 4.9x3.9mm, Pitch 1.27mm)
pins on every part: 4 VEE (power), 8 VCC (power)
part A pins: 1 OUT1 (out), 2 IN1- (in), 3 IN1+ (in)
part B pins: 5 IN2+ (in), 6 IN2- (in), 7 OUT2 (out)

## MC33172VDR2
designator U?
Single Supply, Low Power Operational Amplifier, 3 to 44 V, -40 to 125 degC, 8-Pin SOIC, Tape and Reel; Manufacturer: On Semiconductor; PartNumber: MC33172VDR2; GBW Typ (MHz): 1.8; SR Typ (V/uS): 2.1; VCC Max (V): 44; VCC Min (V): 3; DatasheetVersion: Rev. 12; PackageVersion: Rev. AK, 02/2011; PackageReference: SOIC-8-751-07; PackageDescription: 8-Pin Small Outline Integrated Circuit, Body 4.9 x 3.9 mm, Pitch 1.27 mm; Packing: Tape and Reel; RoHS: FALSE; Mounting Technology: Surface Mount; ComponentLink1Description: Manufacturer URL; ComponentLink1URL: http://www.onsemi.com/; ComponentLink2Description: Datasheet; ComponentLink2URL: http://www.onsemi.cn/pub_link/Collateral/MC33171-D.PDF; ComponentLink3Description: Package Specification; ComponentLink3URL: http://www.onsemi.com/pub_link/Collateral/751-07.PDF
footprint ONSC-SOIC-8-751-07_V (SOIC, 8-Leads, Body 4.9x3.9mm, Pitch 1.27mm)
pins on every part: 4 VEE (power), 8 VCC (power)
part A pins: 1 OUT1 (out), 2 IN1- (in), 3 IN1+ (in)
part B pins: 5 IN2+ (in), 6 IN2- (in), 7 OUT2 (out)

## MC33172VDR2G
designator U?
Single Supply, Low Power Operational Amplifier, 3 to 44 V, -40 to 125 degC, 8-Pin SOIC, Pb-Free, Tape and Reel; Manufacturer: On Semiconductor; PartNumber: MC33172VDR2G; GBW Typ (MHz): 1.8; SR Typ (V/uS): 2.1; VCC Max (V): 44; VCC Min (V): 3; DatasheetVersion: Rev. 12; PackageVersion: Rev. AK, 02/2011; PackageReference: SOIC-8-751-07; PackageDescription: 8-Pin Small Outline Integrated Circuit, Body 4.9 x 3.9 mm, Pitch 1.27 mm; Supplier 1: Digi-Key; Supplier Part Number 1: MC33172VDR2GOSTR-ND; Supplier 2: Digi-Key; Supplier Part Number 2: MC33172VDR2GOSCT-ND; Supplier 3: Mouser; Supplier Part Number 3: 863-MC33172VDR2G; Packing: Tape and Reel; RoHS: TRUE; Mounting Technology: Surface Mount; ComponentLink1Description: Manufacturer URL; ComponentLink1URL: http://www.onsemi.com/; ComponentLink2Description: Datasheet; ComponentLink2URL: http://www.onsemi.cn/pub_link/Collateral/MC33171-D.PDF; ComponentLink3Description: Package Specification; ComponentLink3URL: http://www.onsemi.com/pub_link/Collateral/751-07.PDF
footprint ONSC-SOIC-8-751-07_V (SOIC, 8-Leads, Body 4.9x3.9mm, Pitch 1.27mm)
pins on every part: 4 VEE (power), 8 VCC (power)
part A pins: 1 OUT1 (out), 2 IN1- (in), 3 IN1+ (in)
part B pins: 5 IN2+ (in), 6 IN2- (in), 7 OUT2 (out)

## MC33174D
designator U?
Single Supply, Low Power Operational Amplifier, 3 to 44 V, -40 to 85 degC, 14-Pin SOIC, Tube; Manufacturer: On Semiconductor; PartNumber: MC33174D; GBW Typ (MHz): 1.8; SR Typ (V/uS): 2.1; VCC Max (V): 44; VCC Min (V): 3; DatasheetVersion: Rev. 12; PackageVersion: Rev. H; PackageReference: SOIC-14-751A-03_H; PackageDescription: 14-Pin Small Outline Integrated Circuit, Body 8.65 x 3.9 mm, Pitch 1.27 mm; Packing: Tube; RoHS: FALSE; Mounting Technology: Surface Mount; ComponentLink1Description: Manufacturer URL; ComponentLink1URL: http://www.onsemi.com/; ComponentLink2Description: Datasheet; ComponentLink2URL: http://www.onsemi.cn/pub_link/Collateral/MC33171-D.PDF; ComponentLink3Description: Package Specification; ComponentLink3URL: http://www.onsemi.com/pub_link/Collateral/MC74AC74-D.PDF
footprint ONSC-SOIC-14-751A-03_H_V (SOIC, 14-Leads, Body 8.75x4mm, Pitch 1.27mm)
pins on every part: 4 VCC (power), 11 VEE (power)
part A pins: 1 OUT1 (out), 2 IN1- (in), 3 IN1+ (in)
part B pins: 5 IN2+ (in), 6 IN2- (in), 7 OUT2 (out)
part C pins: 8 OUT3 (out), 9 IN3- (in), 10 IN3+ (in)
part D pins: 12 IN4+ (in), 13 IN4- (in), 14 OUT4 (out)

## MC33174DG
designator U?
Single Supply, Low Power Operational Amplifier, 3 to 44 V, -40 to 85 degC, 14-Pin SOIC, Pb-Free, Tube; Manufacturer: On Semiconductor; PartNumber: MC33174DG; GBW Typ (MHz): 1.8; SR Typ (V/uS): 2.1; VCC Max (V): 44; VCC Min (V): 3; DatasheetVersion: Rev. 12; PackageVersion: Rev. H; PackageReference: SOIC-14-751A-03_H; PackageDescription: 14-Pin Small Outline Integrated Circuit, Body 8.65 x 3.9 mm, Pitch 1.27 mm; Supplier 1: Digi-Key; Supplier Part Number 1: MC33174DGOS-ND; Supplier 2: Farnell; Supplier Part Number 2: 9665315; Supplier 3: Newark; Supplier Part Number 3: 92K6944; Supplier 4: Newark; Supplier Part Number 4: 45J1175; Supplier 5: Mouser; Supplier Part Number 5: 863-MC33174DG; Packing: Tube; RoHS: TRUE; Mounting Technology: Surface Mount; ComponentLink1Description: Manufacturer URL; ComponentLink1URL: http://www.onsemi.com/; ComponentLink2Description: Datasheet; ComponentLink2URL: http://www.onsemi.cn/pub_link/Collateral/MC33171-D.PDF; ComponentLink3Description: Package Specification; ComponentLink3URL: http://www.onsemi.com/pub_link/Collateral/MC74AC74-D.PDF
footprint ONSC-SOIC-14-751A-03_H_V (SOIC, 14-Leads, Body 8.75x4mm, Pitch 1.27mm)
pins on every part: 4 VCC (power), 11 VEE (power)
part A pins: 1 OUT1 (out), 2 IN1- (in), 3 IN1+ (in)
part B pins: 5 IN2+ (in), 6 IN2- (in), 7 OUT2 (out)
part C pins: 8 OUT3 (out), 9 IN3- (in), 10 IN3+ (in)
part D pins: 12 IN4+ (in), 13 IN4- (in), 14 OUT4 (out)

## MC33174DR2
designator U?
Single Supply, Low Power Operational Amplifier, 3 to 44 V, -40 to 85 degC, 14-Pin SOIC, Tape and Reel; Manufacturer: On Semiconductor; PartNumber: MC33174DR2; GBW Typ (MHz): 1.8; SR Typ (V/uS): 2.1; VCC Max (V): 44; VCC Min (V): 3; DatasheetVersion: Rev. 12; PackageVersion: Rev. H; PackageReference: SOIC-14-751A-03_H; PackageDescription: 14-Pin Small Outline Integrated Circuit, Body 8.65 x 3.9 mm, Pitch 1.27 mm; Supplier 1: Digi-Key; Supplier Part Number 1: MC33174DR2OSCT-ND; Supplier 2: Digi-Key; Supplier Part Number 2: MC33174DR2OSDKR-ND; Packing: Tape and Reel; RoHS: FALSE; Mounting Technology: Surface Mount; ComponentLink1Description: Manufacturer URL; ComponentLink1URL: http://www.onsemi.com/; ComponentLink2Description: Datasheet; ComponentLink2URL: http://www.onsemi.cn/pub_link/Collateral/MC33171-D.PDF; ComponentLink3Description: Package Specification; ComponentLink3URL: http://www.onsemi.com/pub_link/Collateral/MC74AC74-D.PDF
footprint ONSC-SOIC-14-751A-03_H_V (SOIC, 14-Leads, Body 8.75x4mm, Pitch 1.27mm)
pins on every part: 4 VCC (power), 11 VEE (power)
part A pins: 1 OUT1 (out), 2 IN1- (in), 3 IN1+ (in)
part B pins: 5 IN2+ (in), 6 IN2- (in), 7 OUT2 (out)
part C pins: 8 OUT3 (out), 9 IN3- (in), 10 IN3+ (in)
part D pins: 12 IN4+ (in), 13 IN4- (in), 14 OUT4 (out)

## MC33174DR2G
designator U?
Single Supply, Low Power Operational Amplifier, 3 to 44 V, -40 to 85 degC, 14-Pin SOIC, Pb-Free, Tape and Reel; Manufacturer: On Semiconductor; PartNumber: MC33174DR2G; GBW Typ (MHz): 1.8; SR Typ (V/uS): 2.1; VCC Max (V): 44; VCC Min (V): 3; DatasheetVersion: Rev. 12; PackageVersion: Rev. H; PackageReference: SOIC-14-751A-03_H; PackageDescription: 14-Pin Small Outline Integrated Circuit, Body 8.65 x 3.9 mm, Pitch 1.27 mm; Supplier 1: Digi-Key; Supplier Part Number 1: MC33174DR2GOSTR-ND; Supplier 2: Digi-Key; Supplier Part Number 2: MC33174DR2GOSCT-ND; Supplier 3: Digi-Key; Supplier Part Number 3: MC33174DR2GOSDKR-ND; Supplier 4: Newark; Supplier Part Number 4: 17H1574; Supplier 5: Mouser; Supplier Part Number 5: 863-MC33174DR2G; Packing: Tape and Reel; RoHS: TRUE; Mounting Technology: Surface Mount; ComponentLink1Description: Manufacturer URL; ComponentLink1URL: http://www.onsemi.com/; ComponentLink2Description: Datasheet; ComponentLink2URL: http://www.onsemi.cn/pub_link/Collateral/MC33171-D.PDF; ComponentLink3Description: Package Specification; ComponentLink3URL: http://www.onsemi.com/pub_link/Collateral/MC74AC74-D.PDF
footprint ONSC-SOIC-14-751A-03_H_V (SOIC, 14-Leads, Body 8.75x4mm, Pitch 1.27mm)
pins on every part: 4 VCC (power), 11 VEE (power)
part A pins: 1 OUT1 (out), 2 IN1- (in), 3 IN1+ (in)
part B pins: 5 IN2+ (in), 6 IN2- (in), 7 OUT2 (out)
part C pins: 8 OUT3 (out), 9 IN3- (in), 10 IN3+ (in)
part D pins: 12 IN4+ (in), 13 IN4- (in), 14 OUT4 (out)

## MC33174DTB
designator U?
Single Supply, Low Power Operational Amplifier, 3 to 44 V, -40 to 85 degC, 14-Pin TSSOP, Pb-Free, Tube; Manufacturer: On Semiconductor; PartNumber: MC33174DTB; GBW Typ (MHz): 1.8; SR Typ (V/uS): 2.1; VCC Max (V): 44; VCC Min (V): 3; DatasheetVersion: Rev. 12; PackageVersion: Rev. B, 10/2006; PackageReference: TSSOP-14-948G-01; PackageDescription: 14-Pin Small Outline Package, Body 5 x 4.4 mm, Pitch 0.65 mm; Supplier 1: Digi-Key; Supplier Part Number 1: MC33174DTB-ND; Supplier 2: Mouser; Supplier Part Number 2: 863-MC33174DTB; Packing: Tube; RoHS: TRUE; Mounting Technology: Surface Mount; ComponentLink1Description: Manufacturer URL; ComponentLink1URL: http://www.onsemi.com/; ComponentLink2Description: Datasheet; ComponentLink2URL: http://www.onsemi.cn/pub_link/Collateral/MC33171-D.PDF; ComponentLink3Description: Package Specification; ComponentLink3URL: http://www.onsemi.com/pub_link/Collateral/948G-01.PDF
footprint ONSC-TSSOP-14-948G-01_V (SOP, 14-Leads, Body 5.1x4.5mm, Pitch 0.65mm)
pins on every part: 4 VCC (power), 11 VEE (power)
part A pins: 1 OUT1 (out), 2 IN1- (in), 3 IN1+ (in)
part B pins: 5 IN2+ (in), 6 IN2- (in), 7 OUT2 (out)
part C pins: 8 OUT3 (out), 9 IN3- (in), 10 IN3+ (in)
part D pins: 12 IN4+ (in), 13 IN4- (in), 14 OUT4 (out)

## MC33174DTBG
designator U?
Single Supply, Low Power Operational Amplifier, 3 to 44 V, -40 to 85 degC, 14-Pin TSSOP, Pb-Free, Tube; Manufacturer: On Semiconductor; PartNumber: MC33174DTBG; GBW Typ (MHz): 1.8; SR Typ (V/uS): 2.1; VCC Max (V): 44; VCC Min (V): 3; DatasheetVersion: Rev. 12; PackageVersion: Rev. B, 10/2006; PackageReference: TSSOP-14-948G-01; PackageDescription: 14-Pin Small Outline Package, Body 5 x 4.4 mm, Pitch 0.65 mm; Supplier 1: Digi-Key; Supplier Part Number 1: MC33174DTBG-ND; Supplier 2: Newark; Supplier Part Number 2: 61K0881; Supplier 3: Mouser; Supplier Part Number 3: 863-MC33174DTBG; Packing: Tube; RoHS: TRUE; Mounting Technology: Surface Mount; ComponentLink1Description: Manufacturer URL; ComponentLink1URL: http://www.onsemi.com/; ComponentLink2Description: Datasheet; ComponentLink2URL: http://www.onsemi.cn/pub_link/Collateral/MC33171-D.PDF; ComponentLink3Description: Package Specification; ComponentLink3URL: http://www.onsemi.com/pub_link/Collateral/948G-01.PDF
footprint ONSC-TSSOP-14-948G-01_V (SOP, 14-Leads, Body 5.1x4.5mm, Pitch 0.65mm)
pins on every part: 4 VCC (power), 11 VEE (power)
part A pins: 1 OUT1 (out), 2 IN1- (in), 3 IN1+ (in)
part B pins: 5 IN2+ (in), 6 IN2- (in), 7 OUT2 (out)
part C pins: 8 OUT3 (out), 9 IN3- (in), 10 IN3+ (in)
part D pins: 12 IN4+ (in), 13 IN4- (in), 14 OUT4 (out)

## MC33174DTBR2
designator U?
Single Supply, Low Power Operational Amplifier, 3 to 44 V, -40 to 85 degC, 14-Pin TSSOP, Pb-Free, Tape and Reel; Manufacturer: On Semiconductor; PartNumber: MC33174DTBR2; GBW Typ (MHz): 1.8; SR Typ (V/uS): 2.1; VCC Max (V): 44; VCC Min (V): 3; DatasheetVersion: Rev. 12; PackageVersion: Rev. B, 10/2006; PackageReference: TSSOP-14-948G-01; PackageDescription: 14-Pin Small Outline Package, Body 5 x 4.4 mm, Pitch 0.65 mm; Supplier 1: Digi-Key; Supplier Part Number 1: MC33174DTBR2OS-ND; Supplier 2: Mouser; Supplier Part Number 2: 863-MC33174DTBR2; Packing: Tape and Reel; RoHS: TRUE; Mounting Technology: Surface Mount; ComponentLink1Description: Manufacturer URL; ComponentLink1URL: http://www.onsemi.com/; ComponentLink2Description: Datasheet; ComponentLink2URL: http://www.onsemi.cn/pub_link/Collateral/MC33171-D.PDF; ComponentLink3Description: Package Specification; ComponentLink3URL: http://www.onsemi.com/pub_link/Collateral/948G-01.PDF
footprint ONSC-TSSOP-14-948G-01_V (SOP, 14-Leads, Body 5.1x4.5mm, Pitch 0.65mm)
pins on every part: 4 VCC (power), 11 VEE (power)
part A pins: 1 OUT1 (out), 2 IN1- (in), 3 IN1+ (in)
part B pins: 5 IN2+ (in), 6 IN2- (in), 7 OUT2 (out)
part C pins: 8 OUT3 (out), 9 IN3- (in), 10 IN3+ (in)
part D pins: 12 IN4+ (in), 13 IN4- (in), 14 OUT4 (out)

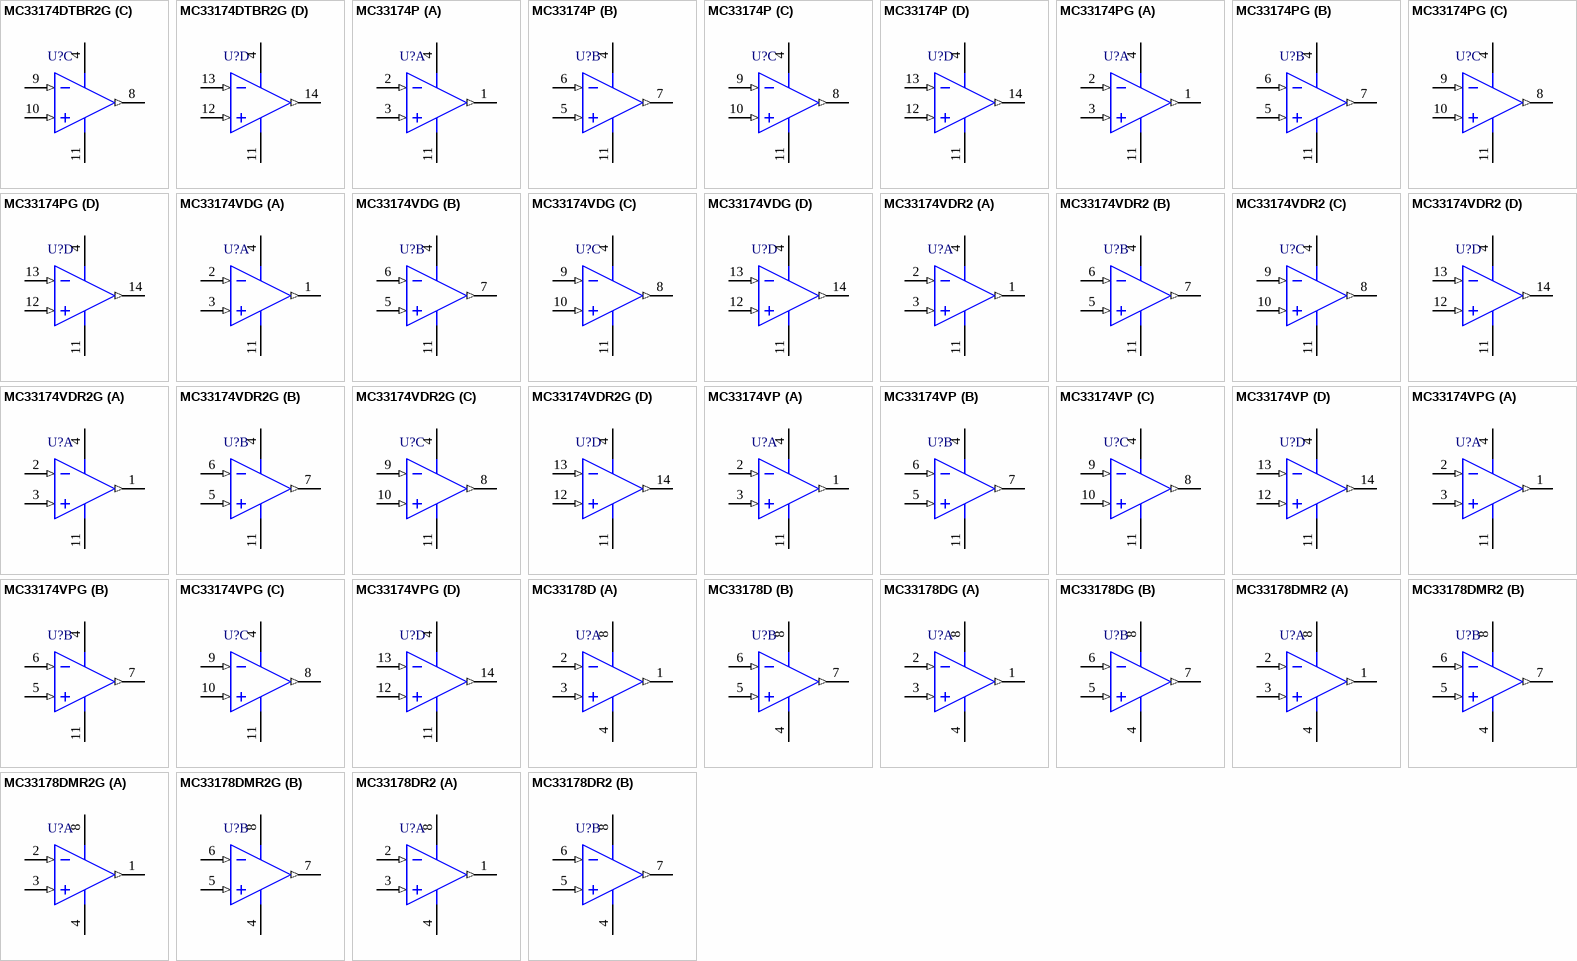
[diagram p12: symbols MC33174DTBR2G to MC33178DR2]

## MC33174DTBR2G
designator U?
Single Supply, Low Power Operational Amplifier, 3 to 44 V, -40 to 85 degC, 14-Pin TSSOP, Pb-Free, Tape and Reel; Manufacturer: On Semiconductor; PartNumber: MC33174DTBR2G; GBW Typ (MHz): 1.8; SR Typ (V/uS): 2.1; VCC Max (V): 44; VCC Min (V): 3; DatasheetVersion: Rev. 12; PackageVersion: Rev. B, 10/2006; PackageReference: TSSOP-14-948G-01; PackageDescription: 14-Pin Small Outline Package, Body 5 x 4.4 mm, Pitch 0.65 mm; Supplier 1: Digi-Key; Supplier Part Number 1: MC33174DTBR2GOSTR-ND; Supplier 2: Digi-Key; Supplier Part Number 2: MC33174DTBR2GOSCT-ND; Supplier 3: Mouser; Supplier Part Number 3: 863-MC33174DTBR2G; Packing: Tape and Reel; RoHS: TRUE; Mounting Technology: Surface Mount; ComponentLink1Description: Manufacturer URL; ComponentLink1URL: http://www.onsemi.com/; ComponentLink2Description: Datasheet; ComponentLink2URL: http://www.onsemi.cn/pub_link/Collateral/MC33171-D.PDF; ComponentLink3Description: Package Specification; ComponentLink3URL: http://www.onsemi.com/pub_link/Collateral/948G-01.PDF
footprint ONSC-TSSOP-14-948G-01_V (SOP, 14-Leads, Body 5.1x4.5mm, Pitch 0.65mm)
pins on every part: 4 VCC (power), 11 VEE (power)
part A pins: 1 OUT1 (out), 2 IN1- (in), 3 IN1+ (in)
part B pins: 5 IN2+ (in), 6 IN2- (in), 7 OUT2 (out)
part C pins: 8 OUT3 (out), 9 IN3- (in), 10 IN3+ (in)
part D pins: 12 IN4+ (in), 13 IN4- (in), 14 OUT4 (out)

## MC33174P
designator U?
Single Supply, Low Power Operational Amplifier, 3 to 44 V, -40 to 85 degC, 14-Pin PDIP, Tube; Manufacturer: On Semiconductor; PartNumber: MC33174P; GBW Typ (MHz): 1.8; SR Typ (V/uS): 2.1; VCC Max (V): 44; VCC Min (V): 3; DatasheetVersion: Rev. 12; PackageVersion: Rev. P, 10/2006; PackageReference: PDIP-14-646-06_P; PackageDescription: 14-Pin Plastic Dual-In Line Package, Body 18.86 x 6.35 mm, Pitch 2.54 mm; Supplier 1: Mouser; Supplier Part Number 1: 863-MC33174P; Packing: Tube; RoHS: FALSE; Mounting Technology: Through Hole; ComponentLink1Description: Manufacturer URL; ComponentLink1URL: http://www.onsemi.com/; ComponentLink2Description: Datasheet; ComponentLink2URL: http://www.onsemi.cn/pub_link/Collateral/MC33171-D.PDF; ComponentLink3Description: Package Specification; ComponentLink3URL: http://www.onsemi.com/pub_link/Collateral/MC14066B-D.PDF
footprint ONSC-PDIP-14-646-06_P (DIP, 14-Leads, Body 19.55x6.6mm, Pitch 2.54mm)
pins on every part: 4 VCC (power), 11 VEE (power)
part A pins: 1 OUT1 (out), 2 IN1- (in), 3 IN1+ (in)
part B pins: 5 IN2+ (in), 6 IN2- (in), 7 OUT2 (out)
part C pins: 8 OUT3 (out), 9 IN3- (in), 10 IN3+ (in)
part D pins: 12 IN4+ (in), 13 IN4- (in), 14 OUT4 (out)

## MC33174PG
designator U?
Single Supply, Low Power Operational Amplifier, 3 to 44 V, -40 to 85 degC, 14-Pin PDIP, Pb-Free, Tube; Manufacturer: On Semiconductor; PartNumber: MC33174PG; GBW Typ (MHz): 1.8; SR Typ (V/uS): 2.1; VCC Max (V): 44; VCC Min (V): 3; DatasheetVersion: Rev. 12; PackageVersion: Rev. P, 10/2006; PackageReference: PDIP-14-646-06_P; PackageDescription: 14-Pin Plastic Dual-In Line Package, Body 18.86 x 6.35 mm, Pitch 2.54 mm; Supplier 1: Digi-Key; Supplier Part Number 1: MC33174PGOS-ND; Supplier 2: Farnell; Supplier Part Number 2: 9664971; Supplier 3: Newark; Supplier Part Number 3: 71J5520; Supplier 4: Mouser; Supplier Part Number 4: 863-MC33174PG; Packing: Tube; RoHS: TRUE; Mounting Technology: Through Hole; ComponentLink1Description: Manufacturer URL; ComponentLink1URL: http://www.onsemi.com/; ComponentLink2Description: Datasheet; ComponentLink2URL: http://www.onsemi.cn/pub_link/Collateral/MC33171-D.PDF; ComponentLink3Description: Package Specification; ComponentLink3URL: http://www.onsemi.com/pub_link/Collateral/MC14066B-D.PDF
footprint ONSC-PDIP-14-646-06_P (DIP, 14-Leads, Body 19.55x6.6mm, Pitch 2.54mm)
pins on every part: 4 VCC (power), 11 VEE (power)
part A pins: 1 OUT1 (out), 2 IN1- (in), 3 IN1+ (in)
part B pins: 5 IN2+ (in), 6 IN2- (in), 7 OUT2 (out)
part C pins: 8 OUT3 (out), 9 IN3- (in), 10 IN3+ (in)
part D pins: 12 IN4+ (in), 13 IN4- (in), 14 OUT4 (out)

## MC33174VDG
designator U?
Single Supply, Low Power Operational Amplifier, 3 to 44 V, -40 to 125 degC, 14-Pin SOIC, Pb-Free, Tube; Manufacturer: On Semiconductor; PartNumber: MC33174VDG; GBW Typ (MHz): 1.8; SR Typ (V/uS): 2.1; VCC Max (V): 44; VCC Min (V): 3; DatasheetVersion: Rev. 12; PackageVersion: Rev. H; PackageReference: SOIC-14-751A-03_H; PackageDescription: 14-Pin Small Outline Integrated Circuit, Body 8.65 x 3.9 mm, Pitch 1.27 mm; Supplier 1: Digi-Key; Supplier Part Number 1: MC33174VDG-ND; Supplier 2: Mouser; Supplier Part Number 2: 863-MC33174VDG; Packing: Tube; RoHS: TRUE; Mounting Technology: Surface Mount; ComponentLink1Description: Manufacturer URL; ComponentLink1URL: http://www.onsemi.com/; ComponentLink2Description: Datasheet; ComponentLink2URL: http://www.onsemi.cn/pub_link/Collateral/MC33171-D.PDF; ComponentLink3Description: Package Specification; ComponentLink3URL: http://www.onsemi.com/pub_link/Collateral/MC74AC74-D.PDF
footprint ONSC-SOIC-14-751A-03_H_V (SOIC, 14-Leads, Body 8.75x4mm, Pitch 1.27mm)
pins on every part: 4 VCC (power), 11 VEE (power)
part A pins: 1 OUT1 (out), 2 IN1- (in), 3 IN1+ (in)
part B pins: 5 IN2+ (in), 6 IN2- (in), 7 OUT2 (out)
part C pins: 8 OUT3 (out), 9 IN3- (in), 10 IN3+ (in)
part D pins: 12 IN4+ (in), 13 IN4- (in), 14 OUT4 (out)